# Altium footprint library 创意时钟.PcbLib: 25 footprints (part 1 of 2)
Each footprint in its own frame and in the unit in brackets; x right, y up, seen from the top. Pads: shape width x height; smd on the part's side, far side on the other; paste and mask are expansions set on the pad; w line width, h text height; cw(c..) or ccw(c..) is an arc to the next point about the centre after c.
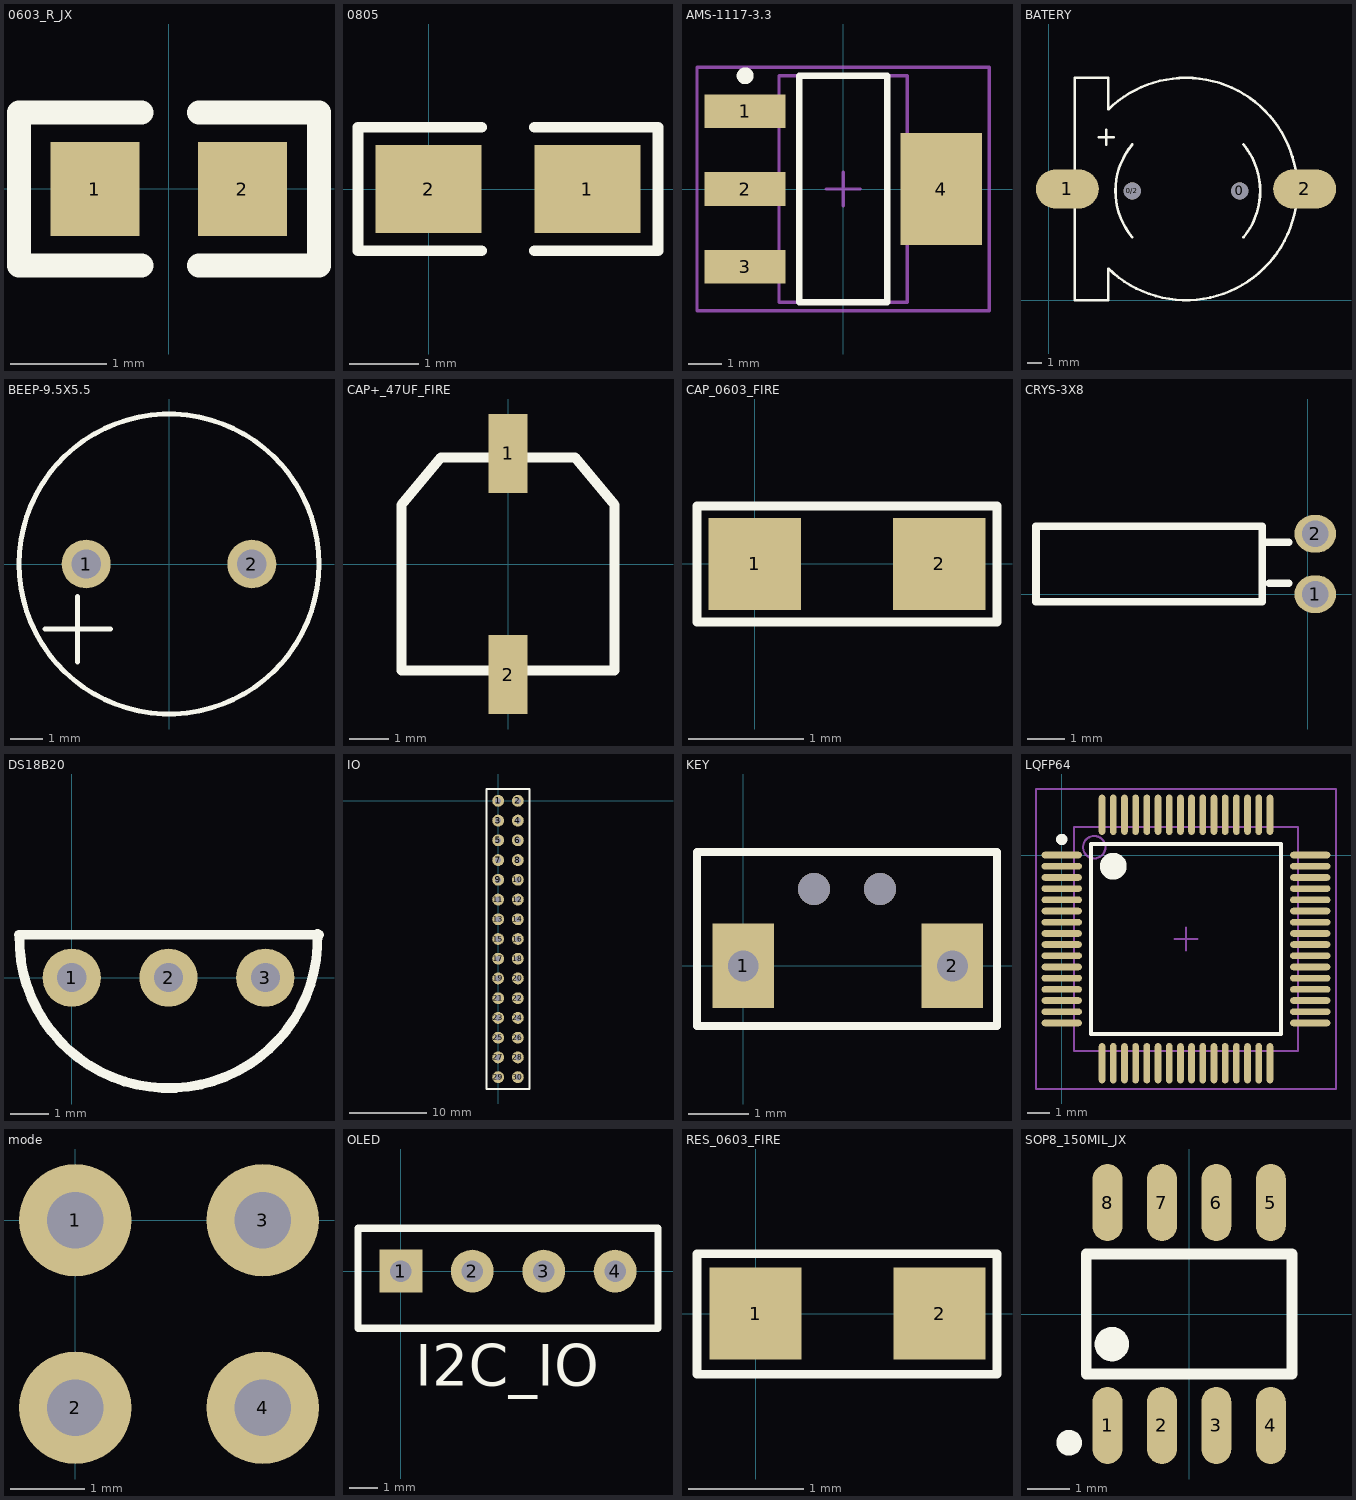
[diagram p0: the footprints below, top view; thin cyan lines are the x and y axes]

## 0603_R_JX [mm]
pads (2):
  rect 0.93x0.98 smd: 1(-0.77,-0.003) 2(0.771,-0.003)
Top Overlay:
  lines w0.25: -0.284,-0.803 -0.3,-0.803 -1.562,-0.803 -1.562,0.797 -0.284,0.797 ; 0.318,-0.803 1.572,-0.803 1.572,0.797 0.318,0.797

## 0805 [mil]
height 74.8
pads (2):
  rect 60x50 smd: 1(90,0) 2(0,0)
Top Overlay:
  lines w6: 30,-35 -40,-35 -40,35 30,35 ; 60,-35 130,-35 130,35 60,35

## AMS-1117-3.3 [mm]
height 1.6
pads (4):
  rect 2.4x1 smd: 1(-2.9,2.3) 2(-2.9,0) 3(-2.9,-2.3)
  rect 2.4x3.3 smd: 4(2.9,0)
Top Overlay:
  circle w0.25: c-2.9,3.35 r0.125
  lines w0.2: -1.3,-3.35 -1.3,3.35 1.3,3.35 1.3,-3.35 -1.3,-3.35
Mechanical 16:
  lines w0.1: -0.5,0 0.5,0 ; 0,-0.5 0,0.5 ; -4.325,-3.6 -4.325,3.6 4.325,3.6 4.325,-3.6 -4.325,-3.6 ; -1.9,-3.35 -1.9,3.35 1.9,3.35 1.9,-3.35 -1.9,-3.35

## BATERY [mil]
pads (4):
  round 46 hole 46: 0(515,295) 0/2(225,295)
  oval 169.29x106.3 smd: 1(50,300) 2(690,300)
Top Overlay:
  lines w7: 135,440 175,440 ; 155,420 155,460 ; 160.38,85.39 160,0 70,0 70,300 70,600 160,600 160.38,514.61 ; 160.48,85.29 ccw(c370,300) 668.19,267.08 ; 160.48,514.71 cw(c370,300) 370,600 cw(c370,300) 668.19,332.92 ; 224.77,170.28 cw(c375,295) 224.99,419.99 ; 525.01,170.01 ccw(c375,295) 525.01,419.99

## BEEP-9.5X5.5 [mm]
pads (2):
  round 1.5 hole 0.9: 1(-2.54,0) 2(2.54,0)
Top Overlay:
  circle w0.152: c0,0 r4.6
  lines w0.152: -3.8,-2 -1.8,-2 ; -2.8,-3 -2.8,-1

## CAP+_47UF_FIRE [mm]
pads (2):
  rect 1x2 smd: 1(0,2.8) 2(0,-2.8)
Top Overlay:
  lines w0.254: -2.7,-2.7 -2.7,1.5 -1.7,2.7 1.7,2.7 2.7,1.5 2.7,-2.7 -2.7,-2.7

## CAP_0603_FIRE [mm]
pads (2):
  rect 0.8x0.8 smd: 1(0,0) 2(1.6,0)
Top Overlay:
  lines w0.076: -0.5,-0.502 -0.5,0.501 2.1,0.501 2.1,-0.502 -0.5,-0.502

## CRYS-3X8 [mm]
pads (2):
  oval 1.1x1 hole 0.7: 1(0.199,-0.003) 2(0.199,1.597)
Top Overlay:
  lines w0.2: -1.09,1.375 -0.5,1.375 ; -1.022,0.292 -0.5,0.292 ; -7.2,-0.2 -7.2,1.8 -1.2,1.8 -1.2,-0.2 -7.2,-0.2

## DS18B20 [mil]
pads (3):
  round 60 hole 30: 1(0,0) 2(100,0) 3(200,0)
Top Overlay:
  lines w10: -54.52,44.47 255.53,44.47 ; -54.02,44.46 ccw(c100,40) 253.99,45.52

## IO [mil]
pads (30):
  round 60 hole 30: 1(0,0) 2(100,0) 3(0,-100) 4(100,-100) 5(0,-200) 6(100,-200) 7(0,-300) 8(100,-300) 9(0,-400) 10(100,-400) 11(0,-500) 12(100,-500) 13(0,-600) 14(100,-600) 15(0,-700) 16(100,-700) 17(0,-800) 18(100,-800) 19(0,-900) 20(100,-900) 21(0,-1000) 22(100,-1000) 23(0,-1100) 24(100,-1100) 25(0,-1200) 26(100,-1200) 27(0,-1300) 28(100,-1300) 29(0,-1400) 30(100,-1400)
Top Overlay:
  lines w10: -60,-1460 160,-1460 160,60 -60,60 -60,-1460

## KEY [mil]
pads (2):
  rect 40x55 / inner rect 40x55 / far side oval 40x55 hole 20: 1(0,0) 2(136,0)
via 46,50 diameter 21 hole 21
via 89,50 diameter 21 hole 21
Top Overlay:
  lines w5: -30,-39 -30,74 165,74 165,-39 -30,-39

## LQFP64 [mm] "SOT-223/SC-73; 4 Leads; Body 6.7 x 7.3 mm, inc. leads (LxW max)"
height 5.6
pads (64):
  oval 1.8x0.3 smd: 1(0,0) 2(0,-0.5) 3(0,-1) 4(0,-1.5) 5(0,-2) 6(0,-2.5) 7(0,-3) 8(0,-3.5) 9(0,-4) 10(0,-4.5) 11(0,-5) 12(0,-5.5) 13(0,-6) 14(0,-6.5) 15(0,-7) 16(0,-7.5) 33(11.1,-7.5) 34(11.1,-7) 35(11.1,-6.5) 36(11.1,-6) 37(11.1,-5.5) 38(11.1,-5) 39(11.1,-4.5) 40(11.1,-4) 41(11.1,-3.5) 42(11.1,-3) 43(11.1,-2.5) 44(11.1,-2) 45(11.1,-1.5) 46(11.1,-1) 47(11.1,-0.5) 48(11.1,0)
  oval 0.3x1.8 smd: 17(1.8,-9.3) 18(2.3,-9.3) 19(2.8,-9.3) 20(3.3,-9.3) 21(3.8,-9.3) 22(4.3,-9.3) 23(4.8,-9.3) 24(5.3,-9.3) 25(5.8,-9.3) 26(6.3,-9.3) 27(6.8,-9.3) 28(7.3,-9.3) 29(7.8,-9.3) 30(8.3,-9.3) 31(8.8,-9.3) 32(9.3,-9.3) 49(9.3,1.8) 50(8.8,1.8) 51(8.3,1.8) 52(7.8,1.8) 53(7.3,1.8) 54(6.8,1.8) 55(6.3,1.8) 56(5.8,1.8) 57(5.3,1.8) 58(4.8,1.8) 59(4.3,1.8) 60(3.8,1.8) 61(3.3,1.8) 62(2.8,1.8) 63(2.3,1.8) 64(1.8,1.8)
Top Overlay:
  circle w0.6: c2.3,-0.5 r0.3
  circle w0.25: c0,0.7 r0.125
  lines w0.178: 1.3,-8 9.8,-8 9.8,0.5 1.3,0.5 1.3,-8
Mechanical 13:
  circle w0.1: c1.45,0.35 r0.5
  lines w0.1: 0.55,-8.75 10.55,-8.75 10.55,1.25 0.55,1.25 0.55,-8.75
Mechanical 15:
  lines w0.1: 5.05,-3.75 6.05,-3.75 ; 5.55,-4.25 5.55,-3.25 ; -1.15,2.95 12.25,2.95 12.25,-10.45 -1.15,-10.45 -1.15,2.95
3D body: height 1.6, standoff 0, extent 0.55,-8.75 10.55,1.25

## mode [mil]
pads (4):
  round 60 hole 30: 1(0,0) 2(0,-100) 3(100,0) 4(100,-100)

## OLED [mil]
pads (4):
  rect 60x60 hole 30: 1(0,0)
  round 60 hole 30: 2(100,0) 3(200,0) 4(300,0)
Top Overlay:
  lines w10: -60,-80 360,-80 360,60 -60,60 -60,-80
  text "I2C_IO" at 20,-180 h100

## RES_0603_FIRE [mm]
pads (2):
  rect 0.8x0.8 smd: 1(0,0) 2(1.6,0)
Top Overlay:
  lines w0.076: -0.51,-0.528 -0.51,0.52 2.099,0.52 2.099,-0.528 -0.51,-0.528

## SOP8_150MIL_JX [mm]
pads (8):
  oval 0.7x1.8 smd: 1(-1.905,-2.601) 2(-0.635,-2.601) 3(0.635,-2.601) 4(1.905,-2.601) 5(1.905,2.601) 6(0.635,2.601) 7(-0.635,2.601) 8(-1.905,2.601)
Top Overlay:
  circle w0.4: c-1.803,-0.704 r0.201
  circle w0.3: c-2.802,-3.005 r0.15
  lines w0.254: -2.402,-1.402 2.399,-1.402 2.399,1.398 -2.402,1.398 -2.402,-1.402